# EAGLE library part BSH-60-01-L-D-A-TR (library modules)
iMX31 MODULE connector Samtec BSH-D connector 120-pins Same as on iMX31-CPU module
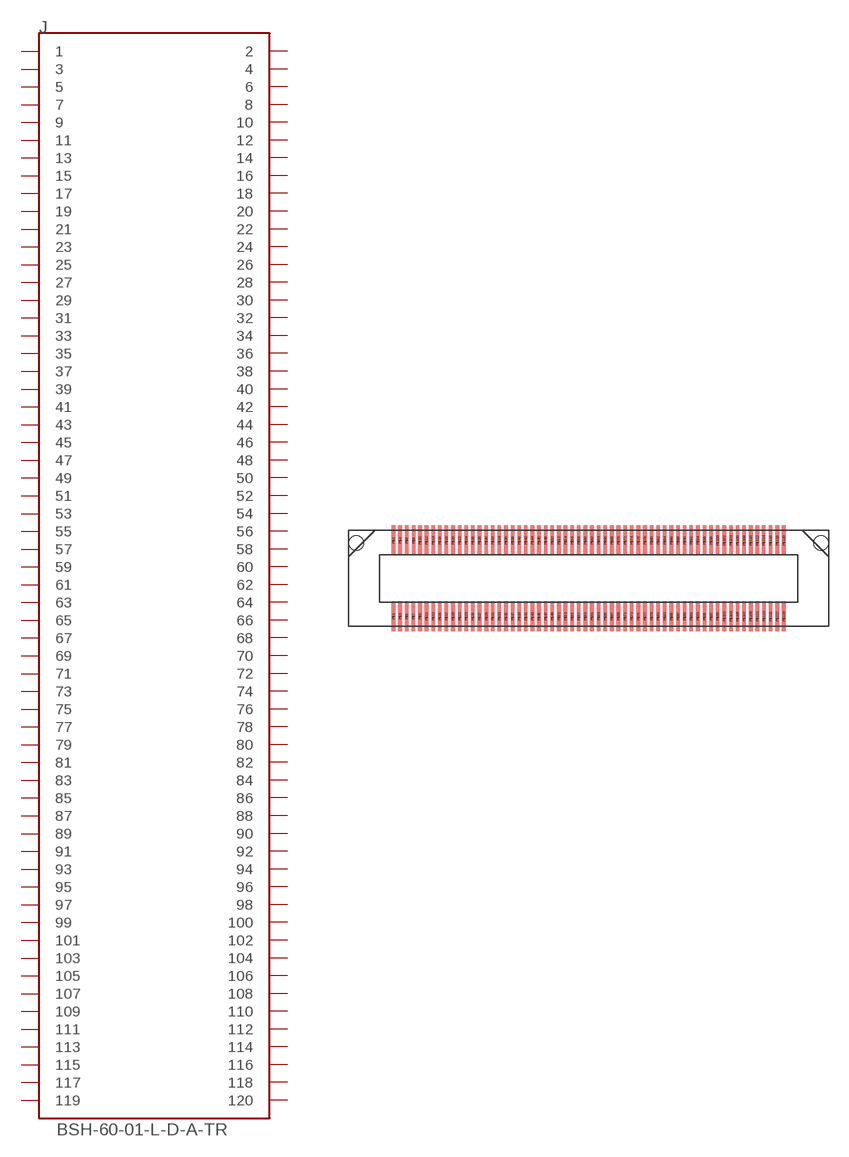
[diagram p9: symbol with the pads of BSH-D; footprint BSH-D]

Designator prefix J

## BSH-60-01-L-D-A-TR  [BSH-D]
P$1  1
P$2  2
P$3  3
P$4  4
P$5  5
P$6  6
P$7  7
P$8  8
P$9  9
P$10  10
P$11  11
P$12  12
P$13  13
P$14  14
P$15  15
P$16  16
P$17  17
P$18  18
P$19  19
P$20  20
P$21  21
P$22  22
P$23  23
P$24  24
P$25  25
P$26  26
P$27  27
P$28  28
P$29  29
P$30  30
P$31  31
P$32  32
P$33  33
P$34  34
P$35  35
P$36  36
P$37  37
P$38  38
P$39  39
P$40  40
P$41  41
P$42  42
P$43  43
P$44  44
P$45  45
P$46  46
P$47  47
P$48  48
P$49  49
P$50  50
P$51  51
P$52  52
P$53  53
P$54  54
P$55  55
P$56  56
P$57  57
P$58  58
P$59  59
P$60  60
P$61  61
P$62  62
P$63  63
P$64  64
P$65  65
P$66  66
P$67  67
P$68  68
P$69  69
P$70  70
P$71  71
P$72  72
P$73  73
P$74  74
P$75  75
P$76  76
P$77  77
P$78  78
P$79  79
P$80  80
P$81  81
P$82  82
P$83  83
P$84  84
P$85  85
P$86  86
P$87  87
P$88  88
P$89  89
P$90  90
P$91  91
P$92  92
P$93  93
P$94  94
P$95  95
P$96  96
P$97  97
P$98  98
P$99  99
P$100  100
P$101  101
P$102  102
P$103  103
P$104  104
P$105  105
P$106  106
P$107  107
P$108  108
P$109  109
P$110  110
P$111  111
P$112  112
P$113  113
P$114  114
P$115  115
P$116  116
P$117  117
P$118  118
P$119  119
P$120  120

## Footprint BSH-D (pad centres in mm)
smd 0.279 x 2.273: P$1 -14.75,-2.864; P$2 -14.75,2.864; P$3 -14.25,-2.864; P$4 -14.25,2.864; P$5 -13.75,-2.864; P$6 -13.75,2.864; P$7 -13.25,-2.864; P$8 -13.225,2.864; P$9 -12.75,-2.864; P$10 -12.75,2.864; P$11 -12.25,-2.864; P$12 -12.25,2.864; P$13 -11.75,-2.864; P$14 -11.75,2.864; P$15 -11.25,-2.864; P$16 -11.25,2.864; P$17 -10.75,-2.864; P$18 -10.75,2.864; P$19 -10.25,-2.864; P$20 -10.25,2.864; P$21 -9.75,-2.864; P$22 -9.75,2.864; P$23 -9.25,-2.864; P$24 -9.25,2.864; P$25 -8.75,-2.864; P$26 -8.75,2.864; P$27 -8.25,-2.864; P$28 -8.25,2.864; P$29 -7.725,-2.864; P$30 -7.75,2.864; P$31 -7.25,-2.864; P$32 -7.25,2.864; P$33 -6.75,-2.864; P$34 -6.75,2.864; P$35 -6.25,-2.864; P$36 -6.25,2.864; P$37 -5.75,-2.864; P$38 -5.75,2.864; P$39 -5.25,-2.864; P$40 -5.25,2.864; P$41 -4.75,-2.864; P$42 -4.75,2.864; P$43 -4.25,-2.864; P$44 -4.25,2.864; P$45 -3.75,-2.864; P$46 -3.75,2.864; P$47 -3.25,-2.864; P$48 -3.25,2.864; P$49 -2.75,-2.864; P$50 -2.75,2.864; P$51 -2.25,-2.864; P$52 -2.25,2.864; P$53 -1.75,-2.864; P$54 -1.75,2.864; P$55 -1.25,-2.864; P$56 -1.25,2.864; P$57 -0.75,-2.864; P$58 -0.75,2.864; P$59 -0.25,-2.864; P$60 -0.25,2.864; P$61 0.25,-2.864; P$62 0.25,2.864; P$63 0.75,-2.864; P$64 0.75,2.864; P$65 1.25,-2.864; P$66 1.25,2.864; P$67 1.75,-2.864; P$68 1.75,2.864; P$69 2.25,-2.864; P$70 2.25,2.864; P$71 2.75,-2.864; P$72 2.75,2.864; P$73 3.25,-2.864; P$74 3.25,2.864; P$75 3.75,-2.864; P$76 3.75,2.864; P$77 4.25,-2.864; P$78 4.25,2.864; P$79 4.75,-2.864; P$80 4.75,2.864; P$81 5.25,-2.864; P$82 5.25,2.864; P$83 5.75,-2.864; P$84 5.75,2.864; P$85 6.25,-2.864; P$86 6.25,2.864; P$87 6.75,-2.864; P$88 6.75,2.864; P$89 7.25,-2.864; P$90 7.25,2.864; P$91 7.75,-2.864; P$92 7.75,2.864; P$93 8.25,-2.864; P$94 8.25,2.864; P$95 8.75,-2.864; P$96 8.75,2.864; P$97 9.25,-2.864; P$98 9.25,2.864; P$99 9.75,-2.864; P$100 9.75,2.864; P$101 10.25,-2.864; P$102 10.25,2.864; P$103 10.75,-2.864; P$104 10.75,2.864; P$105 11.25,-2.864; P$106 11.25,2.864; P$107 11.75,-2.864; P$108 11.75,2.864; P$109 12.25,-2.864; P$110 12.25,2.864; P$111 12.75,-2.864; P$112 12.75,2.864; P$113 13.25,-2.864; P$114 13.225,2.864; P$115 13.75,-2.864; P$116 13.75,2.864; P$117 14.25,-2.864; P$118 14.25,2.864; P$119 14.75,-2.864; P$120 14.75,2.864
hole 1.1 at -17.563,2.666
hole 1.1 at 17.563,2.666